# Altium schematic symbol library TMS-101-02-G-D.SchLib: 1 symbol
Pins are listed as number, name and electrical type; pins without a type are passive.

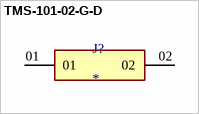
[diagram p0: symbol TMS-101-02-G-D]

## TMS-101-02-G-D
designator J?
MP: TMS-101-02-G-D; Value: *; Package: None; Availability: Unavailable; Price: None
footprint SAMTEC_TMS-101-02-G-D
pins: 01, 02